# EAGLE library part PIC10F222 (library microchip-addl)
PIC10F Product Family The 6-pin products of the PIC10F family offer the motor control designer an opportunity to use microcontrollers in applications that have historically been void of such devices. Whether it is cost or space constraints, PIC10F microcontrollers address these concerns by providing a pricing structure that makes them nearly disposable with form factors that can easily be implemented into the most space constrained designs. The ADC, comparator and timer peripherals found in the PIC10F device family can be used to provide a user interface for basic on/off control, speed control and other intelligent motor functions.
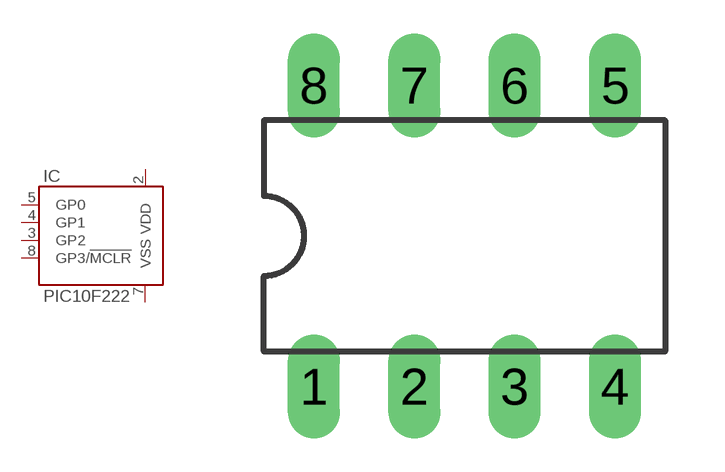
[diagram p4: symbol with the pads of DIL08; footprint DIL08]

Designator prefix IC

## PIC10F222-I/P  [DIL08]
2  VDD  sup
3  GP2
4  GP1
5  GP0
7  VSS  sup
8  GP3/!MCLR  in

## Footprint DIL08 (pad centres in mm)
Dual In Line Package
drill 0.813 long: 1 -3.81,-3.81; 2 -1.27,-3.81; 3 1.27,-3.81; 4 3.81,-3.81; 5 3.81,3.81; 6 1.27,3.81; 7 -1.27,3.81; 8 -3.81,3.81